# Altium integrated library Resistors_CPF-0805.IntLib: 984 symbols (part 2 of 6)
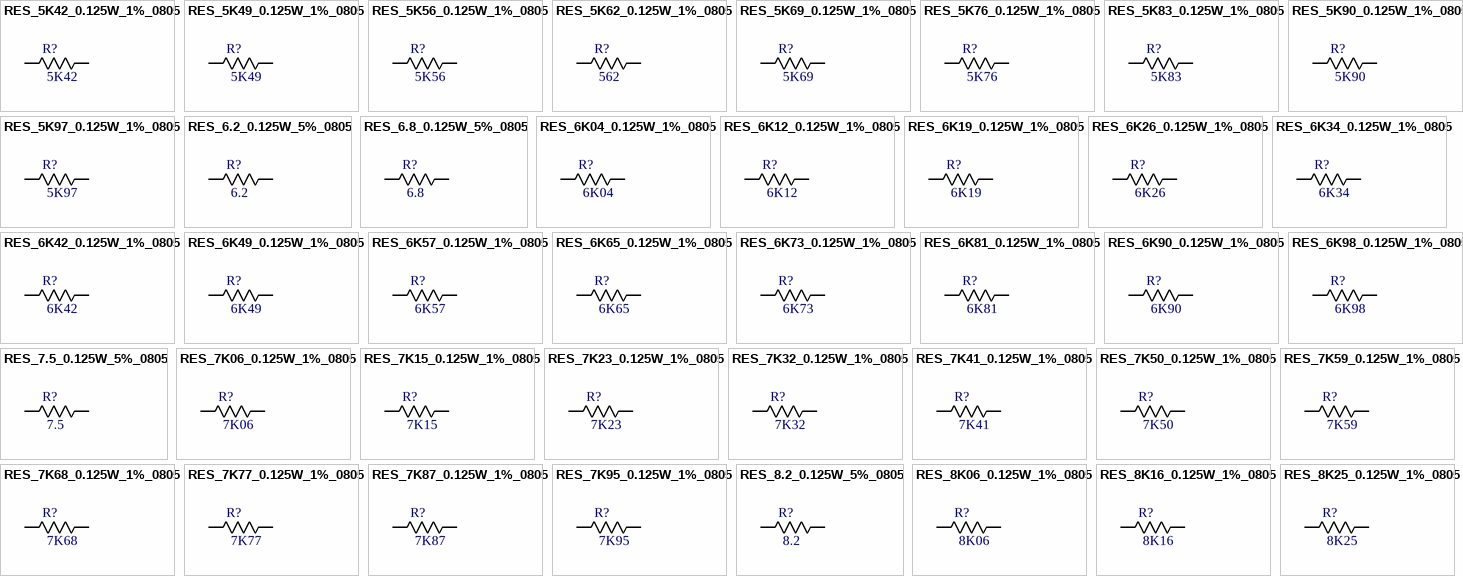
[diagram p25: symbols RES_5K42_0.125W_1%_0805 to RES_8K25_0.125W_1%_0805]

## RES_5K90_0.125W_1%_0805
designator R?, comment 5K90
Resistenza SMD TE Connectivity Film sottile; Voltage[V]: 100; Tollerance[%]: 0.1; Serie: CPF; Vendor: TE Connectivity; Type: Resistors; Package: 0805; Power[W]: 0.1; Value[OHM ]: 5K90
footprint RES_0816_SUS(My_MAXI)
pins: 1, 2

## RES_5K97_0.125W_1%_0805
designator R?, comment 5K97
Resistenza SMD TE Connectivity Film sottile; Voltage[V]: 100; Tollerance[%]: 0.1; Serie: CPF; Vendor: TE Connectivity; Type: Resistors; Package: 0805; Power[W]: 0.1; Value[OHM ]: 5K97
footprint RES_0816_SUS(My_MAXI)
pins: 1, 2

## RES_6.2_0.125W_5%_0805
designator R?, comment 6.2
Resistenza SMD TE Connectivity Film sottile; Voltage[V]: 100; Tollerance[%]: 0.05; Power[W]: 0.1; Serie: CPF; Vendor: TE Connectivity; Type: Resistors; Package: 0805; Value[OHM ]: 6.2
footprint RES_0816_SUS(My_MAXI)
pins: 1, 2

## RES_6.8_0.125W_5%_0805
designator R?, comment 6.8
Resistenza SMD TE Connectivity Film sottile; Voltage[V]: 100; Tollerance[%]: 0.05; Power[W]: 0.1; Serie: CPF; Vendor: TE Connectivity; Type: Resistors; Package: 0805; Value[OHM ]: 6.8
footprint RES_0816_SUS(My_MAXI)
pins: 1, 2

## RES_6K04_0.125W_1%_0805
designator R?, comment 6K04
Resistenza SMD TE Connectivity Film sottile; Voltage[V]: 100; Tollerance[%]: 0.1; Serie: CPF; Vendor: TE Connectivity; Type: Resistors; Package: 0805; Power[W]: 0.1; Value[OHM ]: 6K04
footprint RES_0816_SUS(My_MAXI)
pins: 1, 2

## RES_6K12_0.125W_1%_0805
designator R?, comment 6K12
Resistenza SMD TE Connectivity Film sottile; Voltage[V]: 100; Tollerance[%]: 0.1; Serie: CPF; Vendor: TE Connectivity; Type: Resistors; Package: 0805; Power[W]: 0.1; Value[OHM ]: 6K12
footprint RES_0816_SUS(My_MAXI)
pins: 1, 2

## RES_6K19_0.125W_1%_0805
designator R?, comment 6K19
Resistenza SMD TE Connectivity Film sottile; Voltage[V]: 100; Tollerance[%]: 0.1; Serie: CPF; Vendor: TE Connectivity; Type: Resistors; Package: 0805; Power[W]: 0.1; Value[OHM ]: 6K19
footprint RES_0816_SUS(My_MAXI)
pins: 1, 2

## RES_6K26_0.125W_1%_0805
designator R?, comment 6K26
Resistenza SMD TE Connectivity Film sottile; Voltage[V]: 100; Tollerance[%]: 0.1; Serie: CPF; Vendor: TE Connectivity; Type: Resistors; Package: 0805; Power[W]: 0.1; Value[OHM ]: 6K26
footprint RES_0816_SUS(My_MAXI)
pins: 1, 2

## RES_6K34_0.125W_1%_0805
designator R?, comment 6K34
Resistenza SMD TE Connectivity Film sottile; Voltage[V]: 100; Tollerance[%]: 0.1; Serie: CPF; Vendor: TE Connectivity; Type: Resistors; Package: 0805; Power[W]: 0.1; Value[OHM ]: 6K34
footprint RES_0816_SUS(My_MAXI)
pins: 1, 2

## RES_6K42_0.125W_1%_0805
designator R?, comment 6K42
Resistenza SMD TE Connectivity Film sottile; Voltage[V]: 100; Tollerance[%]: 0.1; Serie: CPF; Vendor: TE Connectivity; Type: Resistors; Package: 0805; Power[W]: 0.1; Value[OHM ]: 6K42
footprint RES_0816_SUS(My_MAXI)
pins: 1, 2

## RES_6K49_0.125W_1%_0805
designator R?, comment 6K49
Resistenza SMD TE Connectivity Film sottile; Voltage[V]: 100; Tollerance[%]: 0.1; Serie: CPF; Vendor: TE Connectivity; Type: Resistors; Package: 0805; Power[W]: 0.1; Value[OHM ]: 6K49
footprint RES_0816_SUS(My_MAXI)
pins: 1, 2

## RES_6K57_0.125W_1%_0805
designator R?, comment 6K57
Resistenza SMD TE Connectivity Film sottile; Voltage[V]: 100; Tollerance[%]: 0.1; Serie: CPF; Vendor: TE Connectivity; Type: Resistors; Package: 0805; Power[W]: 0.1; Value[OHM ]: 6K57
footprint RES_0816_SUS(My_MAXI)
pins: 1, 2

## RES_6K65_0.125W_1%_0805
designator R?, comment 6K65
Resistenza SMD TE Connectivity Film sottile; Voltage[V]: 100; Tollerance[%]: 0.1; Serie: CPF; Vendor: TE Connectivity; Type: Resistors; Package: 0805; Power[W]: 0.1; Value[OHM ]: 6K65
footprint RES_0816_SUS(My_MAXI)
pins: 1, 2

## RES_6K73_0.125W_1%_0805
designator R?, comment 6K73
Resistenza SMD TE Connectivity Film sottile; Voltage[V]: 100; Tollerance[%]: 0.1; Serie: CPF; Vendor: TE Connectivity; Type: Resistors; Package: 0805; Power[W]: 0.1; Value[OHM ]: 6K73
footprint RES_0816_SUS(My_MAXI)
pins: 1, 2

## RES_6K81_0.125W_1%_0805
designator R?, comment 6K81
Resistenza SMD TE Connectivity Film sottile; Voltage[V]: 100; Tollerance[%]: 0.1; Serie: CPF; Vendor: TE Connectivity; Type: Resistors; Package: 0805; Power[W]: 0.1; Value[OHM ]: 6K81
footprint RES_0816_SUS(My_MAXI)
pins: 1, 2

## RES_6K90_0.125W_1%_0805
designator R?, comment 6K90
Resistenza SMD TE Connectivity Film sottile; Voltage[V]: 100; Tollerance[%]: 0.1; Serie: CPF; Vendor: TE Connectivity; Type: Resistors; Package: 0805; Power[W]: 0.1; Value[OHM ]: 6K90
footprint RES_0816_SUS(My_MAXI)
pins: 1, 2

## RES_6K98_0.125W_1%_0805
designator R?, comment 6K98
Resistenza SMD TE Connectivity Film sottile; Voltage[V]: 100; Tollerance[%]: 0.1; Serie: CPF; Vendor: TE Connectivity; Type: Resistors; Package: 0805; Power[W]: 0.1; Value[OHM ]: 6K98
footprint RES_0816_SUS(My_MAXI)
pins: 1, 2

## RES_7.5_0.125W_5%_0805
designator R?, comment 7.5
Resistenza SMD TE Connectivity Film sottile; Voltage[V]: 100; Tollerance[%]: 0.05; Power[W]: 0.1; Serie: CPF; Vendor: TE Connectivity; Type: Resistors; Package: 0805; Value[OHM ]: 7.5
footprint RES_0816_SUS(My_MAXI)
pins: 1, 2

## RES_7K06_0.125W_1%_0805
designator R?, comment 7K06
Resistenza SMD TE Connectivity Film sottile; Voltage[V]: 100; Tollerance[%]: 0.1; Serie: CPF; Vendor: TE Connectivity; Type: Resistors; Package: 0805; Power[W]: 0.1; Value[OHM ]: 7K06
footprint RES_0816_SUS(My_MAXI)
pins: 1, 2

## RES_7K15_0.125W_1%_0805
designator R?, comment 7K15
Resistenza SMD TE Connectivity Film sottile; Voltage[V]: 100; Tollerance[%]: 0.1; Serie: CPF; Vendor: TE Connectivity; Type: Resistors; Package: 0805; Power[W]: 0.1; Value[OHM ]: 7K15
footprint RES_0816_SUS(My_MAXI)
pins: 1, 2

## RES_7K23_0.125W_1%_0805
designator R?, comment 7K23
Resistenza SMD TE Connectivity Film sottile; Voltage[V]: 100; Tollerance[%]: 0.1; Serie: CPF; Vendor: TE Connectivity; Type: Resistors; Package: 0805; Power[W]: 0.1; Value[OHM ]: 7K23
footprint RES_0816_SUS(My_MAXI)
pins: 1, 2

## RES_7K32_0.125W_1%_0805
designator R?, comment 7K32
Resistenza SMD TE Connectivity Film sottile; Voltage[V]: 100; Tollerance[%]: 0.1; Serie: CPF; Vendor: TE Connectivity; Type: Resistors; Package: 0805; Power[W]: 0.1; Value[OHM ]: 7K32
footprint RES_0816_SUS(My_MAXI)
pins: 1, 2

## RES_7K41_0.125W_1%_0805
designator R?, comment 7K41
Resistenza SMD TE Connectivity Film sottile; Voltage[V]: 100; Tollerance[%]: 0.1; Serie: CPF; Vendor: TE Connectivity; Type: Resistors; Package: 0805; Power[W]: 0.1; Value[OHM ]: 7K41
footprint RES_0816_SUS(My_MAXI)
pins: 1, 2

## RES_7K50_0.125W_1%_0805
designator R?, comment 7K50
Resistenza SMD TE Connectivity Film sottile; Voltage[V]: 100; Tollerance[%]: 0.1; Serie: CPF; Vendor: TE Connectivity; Type: Resistors; Package: 0805; Power[W]: 0.1; Value[OHM ]: 7K50
footprint RES_0816_SUS(My_MAXI)
pins: 1, 2

## RES_7K59_0.125W_1%_0805
designator R?, comment 7K59
Resistenza SMD TE Connectivity Film sottile; Voltage[V]: 100; Tollerance[%]: 0.1; Serie: CPF; Vendor: TE Connectivity; Type: Resistors; Package: 0805; Power[W]: 0.1; Value[OHM ]: 7K59
footprint RES_0816_SUS(My_MAXI)
pins: 1, 2

## RES_7K68_0.125W_1%_0805
designator R?, comment 7K68
Resistenza SMD TE Connectivity Film sottile; Voltage[V]: 100; Tollerance[%]: 0.1; Serie: CPF; Vendor: TE Connectivity; Type: Resistors; Package: 0805; Power[W]: 0.1; Value[OHM ]: 7K68
footprint RES_0816_SUS(My_MAXI)
pins: 1, 2

## RES_7K77_0.125W_1%_0805
designator R?, comment 7K77
Resistenza SMD TE Connectivity Film sottile; Voltage[V]: 100; Tollerance[%]: 0.1; Serie: CPF; Vendor: TE Connectivity; Type: Resistors; Package: 0805; Power[W]: 0.1; Value[OHM ]: 7K77
footprint RES_0816_SUS(My_MAXI)
pins: 1, 2

## RES_7K87_0.125W_1%_0805
designator R?, comment 7K87
Resistenza SMD TE Connectivity Film sottile; Voltage[V]: 100; Tollerance[%]: 0.1; Serie: CPF; Vendor: TE Connectivity; Type: Resistors; Package: 0805; Power[W]: 0.1; Value[OHM ]: 7K87
footprint RES_0816_SUS(My_MAXI)
pins: 1, 2

## RES_7K95_0.125W_1%_0805
designator R?, comment 7K95
Resistenza SMD TE Connectivity Film sottile; Voltage[V]: 100; Tollerance[%]: 0.1; Serie: CPF; Vendor: TE Connectivity; Type: Resistors; Package: 0805; Power[W]: 0.1; Value[OHM ]: 7K95
footprint RES_0816_SUS(My_MAXI)
pins: 1, 2

## RES_8.2_0.125W_5%_0805
designator R?, comment 8.2
Resistenza SMD TE Connectivity Film sottile; Voltage[V]: 100; Tollerance[%]: 0.05; Power[W]: 0.1; Serie: CPF; Vendor: TE Connectivity; Type: Resistors; Package: 0805; Value[OHM ]: 8.2
footprint RES_0816_SUS(My_MAXI)
pins: 1, 2

## RES_8K06_0.125W_1%_0805
designator R?, comment 8K06
Resistenza SMD TE Connectivity Film sottile; Voltage[V]: 100; Tollerance[%]: 0.1; Serie: CPF; Vendor: TE Connectivity; Type: Resistors; Package: 0805; Power[W]: 0.1; Value[OHM ]: 8K06
footprint RES_0816_SUS(My_MAXI)
pins: 1, 2

## RES_8K16_0.125W_1%_0805
designator R?, comment 8K16
Resistenza SMD TE Connectivity Film sottile; Voltage[V]: 100; Tollerance[%]: 0.1; Serie: CPF; Codice RS: 6; Vendor: TE Connectivity; Type: Resistors; Package: 0805; Power[W]: 0.1; Value[OHM ]: 8K16
footprint RES_0816_SUS(My_MAXI)
pins: 1, 2

## RES_8K25_0.125W_1%_0805
designator R?, comment 8K25
Resistenza SMD TE Connectivity Film sottile; Voltage[V]: 100; Tollerance[%]: 0.1; Serie: CPF; Vendor: TE Connectivity; Type: Resistors; Package: 0805; Power[W]: 0.1; Value[OHM ]: 8K25
footprint RES_0816_SUS(My_MAXI)
pins: 1, 2

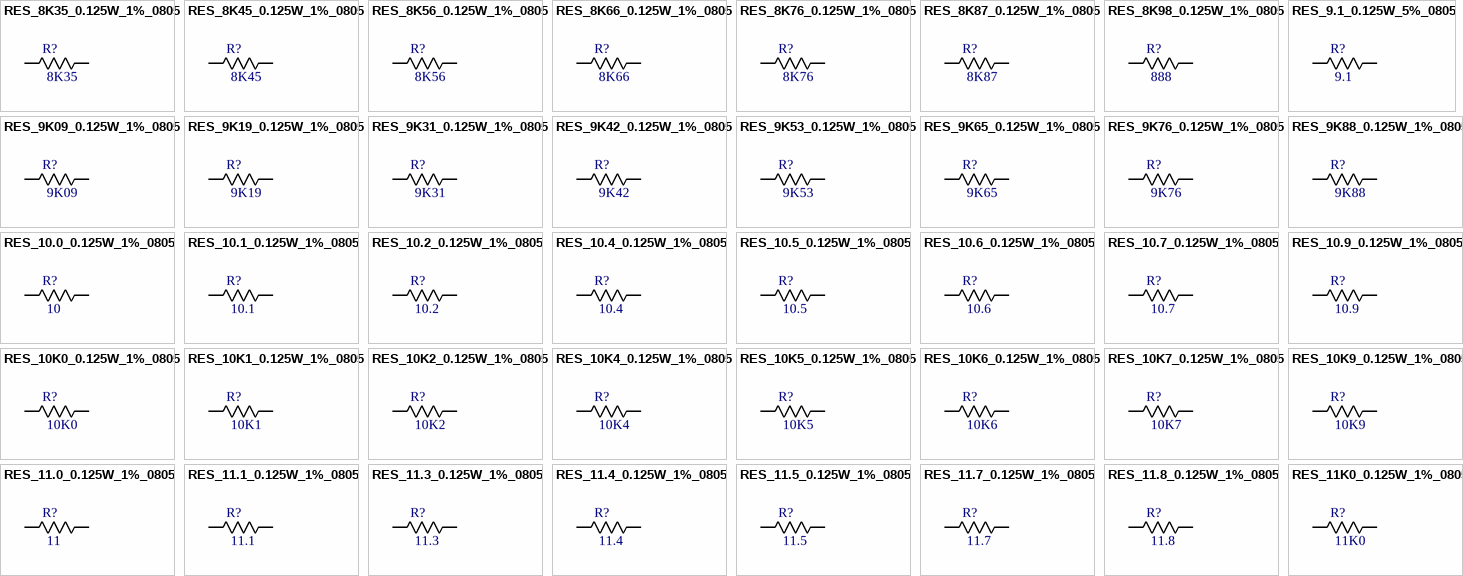
[diagram p5: symbols RES_8K35_0.125W_1%_0805 to RES_11K0_0.125W_1%_0805]

## RES_8K35_0.125W_1%_0805
designator R?, comment 8K35
Resistenza SMD TE Connectivity Film sottile; Voltage[V]: 100; Tollerance[%]: 0.1; Serie: CPF; Vendor: TE Connectivity; Type: Resistors; Package: 0805; Power[W]: 0.1; Value[OHM ]: 8K35
footprint RES_0816_SUS(My_MAXI)
pins: 1, 2

## RES_8K45_0.125W_1%_0805
designator R?, comment 8K45
Resistenza SMD TE Connectivity Film sottile; Voltage[V]: 100; Tollerance[%]: 0.1; Serie: CPF; Vendor: TE Connectivity; Type: Resistors; Package: 0805; Power[W]: 0.1; Value[OHM ]: 8K45
footprint RES_0816_SUS(My_MAXI)
pins: 1, 2

## RES_8K56_0.125W_1%_0805
designator R?, comment 8K56
Resistenza SMD TE Connectivity Film sottile; Voltage[V]: 100; Tollerance[%]: 0.1; Serie: CPF; Vendor: TE Connectivity; Type: Resistors; Package: 0805; Power[W]: 0.1; Value[OHM ]: 8K56
footprint RES_0816_SUS(My_MAXI)
pins: 1, 2

## RES_8K66_0.125W_1%_0805
designator R?, comment 8K66
Resistenza SMD TE Connectivity Film sottile; Voltage[V]: 100; Tollerance[%]: 0.1; Serie: CPF; Vendor: TE Connectivity; Type: Resistors; Package: 0805; Power[W]: 0.1; Value[OHM ]: 8K66
footprint RES_0816_SUS(My_MAXI)
pins: 1, 2

## RES_8K76_0.125W_1%_0805
designator R?, comment 8K76
Resistenza SMD TE Connectivity Film sottile; Voltage[V]: 100; Tollerance[%]: 0.1; Serie: CPF; Vendor: TE Connectivity; Type: Resistors; Package: 0805; Power[W]: 0.1; Value[OHM ]: 8K76
footprint RES_0816_SUS(My_MAXI)
pins: 1, 2

## RES_8K87_0.125W_1%_0805
designator R?, comment 8K87
Resistenza SMD TE Connectivity Film sottile; Voltage[V]: 100; Tollerance[%]: 0.1; Serie: CPF; Vendor: TE Connectivity; Type: Resistors; Package: 0805; Power[W]: 0.1; Value[OHM ]: 8K87
footprint RES_0816_SUS(My_MAXI)
pins: 1, 2

## RES_8K98_0.125W_1%_0805
designator R?, comment 888
Resistenza SMD TE Connectivity Film sottile; Voltage[V]: 100; Tollerance[%]: 0.1; Serie: CPF; Vendor: TE Connectivity; Type: Resistors; Package: 0805; Power[W]: 0.1; Value[OHM ]: 888
footprint RES_0816_SUS(My_MAXI)
pins: 1, 2

## RES_9.1_0.125W_5%_0805
designator R?, comment 9.1
Resistenza SMD TE Connectivity Film sottile; Voltage[V]: 100; Tollerance[%]: 0.05; Power[W]: 0.1; Serie: CPF; Vendor: TE Connectivity; Type: Resistors; Package: 0805; Value[OHM ]: 9.1
footprint RES_0816_SUS(My_MAXI)
pins: 1, 2

## RES_9K09_0.125W_1%_0805
designator R?, comment 9K09
Resistenza SMD TE Connectivity Film sottile; Voltage[V]: 100; Tollerance[%]: 0.1; Serie: CPF; Vendor: TE Connectivity; Type: Resistors; Package: 0805; Power[W]: 0.1; Value[OHM ]: 9K09
footprint RES_0816_SUS(My_MAXI)
pins: 1, 2

## RES_9K19_0.125W_1%_0805
designator R?, comment 9K19
Resistenza SMD TE Connectivity Film sottile; Voltage[V]: 100; Tollerance[%]: 0.1; Serie: CPF; Vendor: TE Connectivity; Type: Resistors; Package: 0805; Power[W]: 0.1; Value[OHM ]: 9K19
footprint RES_0816_SUS(My_MAXI)
pins: 1, 2

## RES_9K31_0.125W_1%_0805
designator R?, comment 9K31
Resistenza SMD TE Connectivity Film sottile; Voltage[V]: 100; Tollerance[%]: 0.1; Serie: CPF; Vendor: TE Connectivity; Type: Resistors; Package: 0805; Power[W]: 0.1; Value[OHM ]: 9K31
footprint RES_0816_SUS(My_MAXI)
pins: 1, 2

## RES_9K42_0.125W_1%_0805
designator R?, comment 9K42
Resistenza SMD TE Connectivity Film sottile; Voltage[V]: 100; Tollerance[%]: 0.1; Serie: CPF; Vendor: TE Connectivity; Type: Resistors; Package: 0805; Power[W]: 0.1; Value[OHM ]: 9K42
footprint RES_0816_SUS(My_MAXI)
pins: 1, 2

## RES_9K53_0.125W_1%_0805
designator R?, comment 9K53
Resistenza SMD TE Connectivity Film sottile; Voltage[V]: 100; Tollerance[%]: 0.1; Serie: CPF; Vendor: TE Connectivity; Type: Resistors; Package: 0805; Power[W]: 0.1; Value[OHM ]: 9K53
footprint RES_0816_SUS(My_MAXI)
pins: 1, 2

## RES_9K65_0.125W_1%_0805
designator R?, comment 9K65
Resistenza SMD TE Connectivity Film sottile; Voltage[V]: 100; Tollerance[%]: 0.1; Serie: CPF; Vendor: TE Connectivity; Type: Resistors; Package: 0805; Power[W]: 0.1; Value[OHM ]: 9K65
footprint RES_0816_SUS(My_MAXI)
pins: 1, 2

## RES_9K76_0.125W_1%_0805
designator R?, comment 9K76
Resistenza SMD TE Connectivity Film sottile; Voltage[V]: 100; Tollerance[%]: 0.1; Serie: CPF; Vendor: TE Connectivity; Type: Resistors; Package: 0805; Power[W]: 0.1; Value[OHM ]: 9K76
footprint RES_0816_SUS(My_MAXI)
pins: 1, 2

## RES_9K88_0.125W_1%_0805
designator R?, comment 9K88
Resistenza SMD TE Connectivity Film sottile; Voltage[V]: 100; Tollerance[%]: 0.1; Serie: CPF; Codice RS: 666-2516; Vendor: TE Connectivity; Type: Resistors; Package: 0805; Power[W]: 0.1; Value[OHM ]: 100
footprint RES_0816_SUS(My_MAXI)
pins: 1, 2

## RES_10.0_0.125W_1%_0805
designator R?, comment 10
Resistenza SMD TE Connectivity Film sottile; Voltage[V]: 100; Tollerance[%]: 0.1; Serie: CPF; Vendor: TE Connectivity; Type: Resistors; Package: 0805; Power[W]: 0.1; Value[OHM ]: 10
footprint RES_0816_SUS(My_MAXI)
pins: 1, 2

## RES_10.1_0.125W_1%_0805
designator R?, comment 10.1
Resistenza SMD TE Connectivity Film sottile; Voltage[V]: 100; Tollerance[%]: 0.1; Serie: CPF; Vendor: TE Connectivity; Type: Resistors; Package: 0805; Power[W]: 0.1; Value[OHM ]: 10.1
footprint RES_0816_SUS(My_MAXI)
pins: 1, 2

## RES_10.2_0.125W_1%_0805
designator R?, comment 10.2
Resistenza SMD TE Connectivity Film sottile; Voltage[V]: 100; Tollerance[%]: 0.1; Serie: CPF; Vendor: TE Connectivity; Type: Resistors; Package: 0805; Power[W]: 0.1; Value[OHM ]: 10.2
footprint RES_0816_SUS(My_MAXI)
pins: 1, 2

## RES_10.4_0.125W_1%_0805
designator R?, comment 10.4
Resistenza SMD TE Connectivity Film sottile; Voltage[V]: 100; Tollerance[%]: 0.1; Serie: CPF; Vendor: TE Connectivity; Type: Resistors; Package: 0805; Power[W]: 0.1; Value[OHM ]: 10.4
footprint RES_0816_SUS(My_MAXI)
pins: 1, 2

## RES_10.5_0.125W_1%_0805
designator R?, comment 10.5
Resistenza SMD TE Connectivity Film sottile; Voltage[V]: 100; Tollerance[%]: 0.1; Serie: CPF; Vendor: TE Connectivity; Type: Resistors; Package: 0805; Power[W]: 0.1; Value[OHM ]: 10.5
footprint RES_0816_SUS(My_MAXI)
pins: 1, 2

## RES_10.6_0.125W_1%_0805
designator R?, comment 10.6
Resistenza SMD TE Connectivity Film sottile; Voltage[V]: 100; Tollerance[%]: 0.1; Serie: CPF; Value[OHM ]: 10.5; Vendor: TE Connectivity; Type: Resistors; Package: 0805; Power[W]: 0.1
footprint RES_0816_SUS(My_MAXI)
pins: 1, 2

## RES_10.7_0.125W_1%_0805
designator R?, comment 10.7
Resistenza SMD TE Connectivity Film sottile; Manufacturer_Part_Number: CPF0805B100RE; Voltage[V]: 100; Tollerance[%]: 0.1; Serie: CPF; Codice RS: 666-2516; Vendor: TE Connectivity; Type: Resistors; Package: 0805; Power[W]: 0.1; Value[OHM ]: 10.7
footprint RES_0816_SUS(My_MAXI)
pins: 1, 2

## RES_10.9_0.125W_1%_0805
designator R?, comment 10.9
Resistenza SMD TE Connectivity Film sottile; Voltage[V]: 100; Tollerance[%]: 0.1; Serie: CPF; Vendor: TE Connectivity; Type: Resistors; Package: 0805; Power[W]: 0.1; Value[OHM ]: 10.9
footprint RES_0816_SUS(My_MAXI)
pins: 1, 2

## RES_10K0_0.125W_1%_0805
designator R?, comment 10K0
Resistenza SMD TE Connectivity Film sottile; Voltage[V]: 100; Tollerance[%]: 0.1; Serie: CPF; Vendor: TE Connectivity; Type: Resistors; Package: 0805; Power[W]: 0.1; Value[OHM ]: 10K0
footprint RES_0816_SUS(My_MAXI)
pins: 1, 2

## RES_10K1_0.125W_1%_0805
designator R?, comment 10K1
Resistenza SMD TE Connectivity Film sottile; Voltage[V]: 100; Tollerance[%]: 0.1; Serie: CPF; Vendor: TE Connectivity; Type: Resistors; Package: 0805; Power[W]: 0.1; Value[OHM ]: 10K1
footprint RES_0816_SUS(My_MAXI)
pins: 1, 2

## RES_10K2_0.125W_1%_0805
designator R?, comment 10K2
Resistenza SMD TE Connectivity Film sottile; Voltage[V]: 100; Tollerance[%]: 0.1; Serie: CPF; Vendor: TE Connectivity; Type: Resistors; Package: 0805; Power[W]: 0.1; Value[OHM ]: 10K2
footprint RES_0816_SUS(My_MAXI)
pins: 1, 2

## RES_10K4_0.125W_1%_0805
designator R?, comment 10K4
Resistenza SMD TE Connectivity Film sottile; Voltage[V]: 100; Tollerance[%]: 0.1; Serie: CPF; Vendor: TE Connectivity; Type: Resistors; Package: 0805; Power[W]: 0.1; Value[OHM ]: 10K4
footprint RES_0816_SUS(My_MAXI)
pins: 1, 2

## RES_10K5_0.125W_1%_0805
designator R?, comment 10K5
Resistenza SMD TE Connectivity Film sottile; Voltage[V]: 100; Tollerance[%]: 0.1; Serie: CPF; Vendor: TE Connectivity; Type: Resistors; Package: 0805; Power[W]: 0.1; Value[OHM ]: 10K5
footprint RES_0816_SUS(My_MAXI)
pins: 1, 2

## RES_10K6_0.125W_1%_0805
designator R?, comment 10K6
Resistenza SMD TE Connectivity Film sottile; Voltage[V]: 100; Tollerance[%]: 0.1; Serie: CPF; Vendor: TE Connectivity; Type: Resistors; Package: 0805; Power[W]: 0.1; Value[OHM ]: 10K6
footprint RES_0816_SUS(My_MAXI)
pins: 1, 2

## RES_10K7_0.125W_1%_0805
designator R?, comment 10K7
Resistenza SMD TE Connectivity Film sottile; Voltage[V]: 100; Tollerance[%]: 0.1; Serie: CPF; Value[OHM ]: 10K6; Vendor: TE Connectivity; Type: Resistors; Package: 0805; Power[W]: 0.1
footprint RES_0816_SUS(My_MAXI)
pins: 1, 2

## RES_10K9_0.125W_1%_0805
designator R?, comment 10K9
Resistenza SMD TE Connectivity Film sottile; Voltage[V]: 100; Tollerance[%]: 0.1; Serie: CPF; Vendor: TE Connectivity; Type: Resistors; Package: 0805; Power[W]: 0.1; Value[OHM ]: 10K9
footprint RES_0816_SUS(My_MAXI)
pins: 1, 2

## RES_11.0_0.125W_1%_0805
designator R?, comment 11
Resistenza SMD TE Connectivity Film sottile; Voltage[V]: 100; Tollerance[%]: 0.1; Serie: CPF; Vendor: TE Connectivity; Type: Resistors; Package: 0805; Power[W]: 0.1; Value[OHM ]: 11
footprint RES_0816_SUS(My_MAXI)
pins: 1, 2

## RES_11.1_0.125W_1%_0805
designator R?, comment 11.1
Resistenza SMD TE Connectivity Film sottile; Voltage[V]: 100; Tollerance[%]: 0.1; Serie: CPF; Vendor: TE Connectivity; Type: Resistors; Package: 0805; Power[W]: 0.1; Value[OHM ]: 11.1
footprint RES_0816_SUS(My_MAXI)
pins: 1, 2

## RES_11.3_0.125W_1%_0805
designator R?, comment 11.3
Resistenza SMD TE Connectivity Film sottile; Voltage[V]: 100; Tollerance[%]: 0.1; Serie: CPF; Vendor: TE Connectivity; Type: Resistors; Package: 0805; Power[W]: 0.1; Value[OHM ]: 11.3
footprint RES_0816_SUS(My_MAXI)
pins: 1, 2

## RES_11.4_0.125W_1%_0805
designator R?, comment 11.4
Resistenza SMD TE Connectivity Film sottile; Voltage[V]: 100; Tollerance[%]: 0.1; Serie: CPF; Vendor: TE Connectivity; Type: Resistors; Package: 0805; Power[W]: 0.1; Value[OHM ]: 11.4
footprint RES_0816_SUS(My_MAXI)
pins: 1, 2

## RES_11.5_0.125W_1%_0805
designator R?, comment 11.5
Resistenza SMD TE Connectivity Film sottile; Voltage[V]: 100; Tollerance[%]: 0.1; Serie: CPF; Vendor: TE Connectivity; Type: Resistors; Package: 0805; Power[W]: 0.1; Value[OHM ]: 11.5
footprint RES_0816_SUS(My_MAXI)
pins: 1, 2

## RES_11.7_0.125W_1%_0805
designator R?, comment 11.7
Resistenza SMD TE Connectivity Film sottile; Voltage[V]: 100; Tollerance[%]: 0.1; Serie: CPF; Vendor: TE Connectivity; Type: Resistors; Package: 0805; Power[W]: 0.1; Value[OHM ]: 11.7
footprint RES_0816_SUS(My_MAXI)
pins: 1, 2

## RES_11.8_0.125W_1%_0805
designator R?, comment 11.8
Resistenza SMD TE Connectivity Film sottile; Voltage[V]: 100; Tollerance[%]: 0.1; Serie: CPF; Vendor: TE Connectivity; Type: Resistors; Package: 0805; Power[W]: 0.1; Value[OHM ]: 11.8
footprint RES_0816_SUS(My_MAXI)
pins: 1, 2

## RES_11K0_0.125W_1%_0805
designator R?, comment 11K0
Resistenza SMD TE Connectivity Film sottile; Voltage[V]: 100; Tollerance[%]: 0.1; Serie: CPF; Vendor: TE Connectivity; Type: Resistors; Package: 0805; Power[W]: 0.1; Value[OHM ]: 11K0
footprint RES_0816_SUS(My_MAXI)
pins: 1, 2

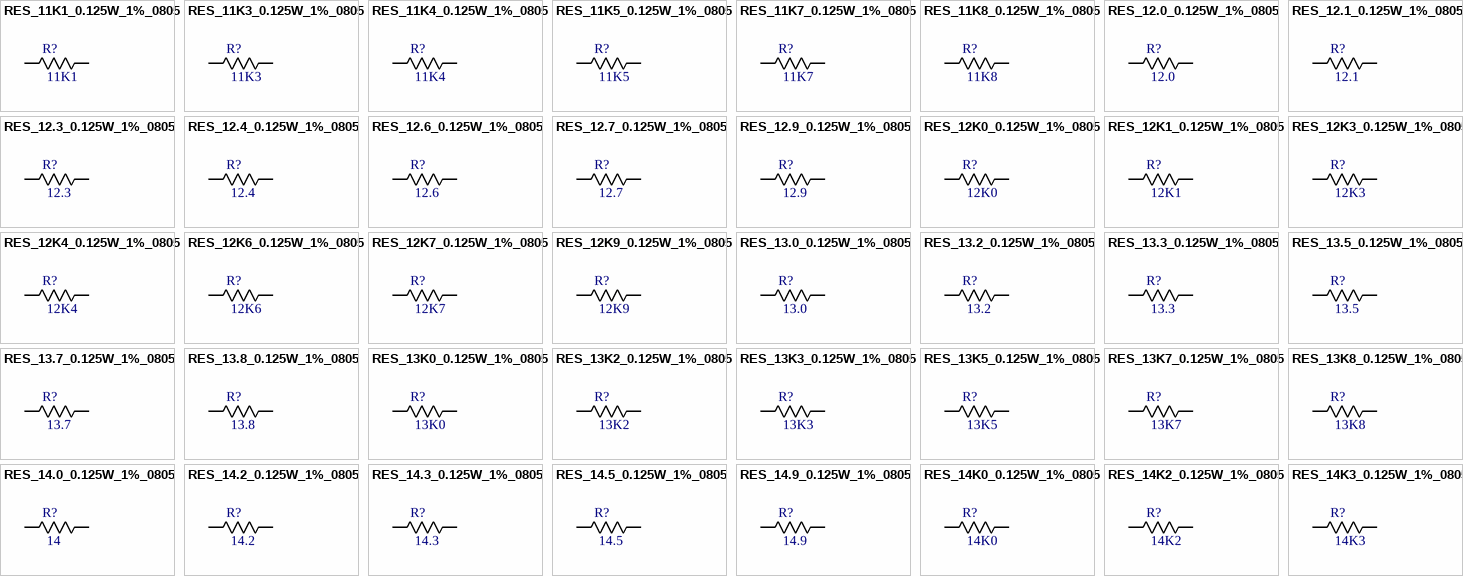
[diagram p6: symbols RES_11K1_0.125W_1%_0805 to RES_14K3_0.125W_1%_0805]

## RES_11K1_0.125W_1%_0805
designator R?, comment 11K1
Resistenza SMD TE Connectivity Film sottile; Voltage[V]: 100; Tollerance[%]: 0.1; Serie: CPF; Vendor: TE Connectivity; Type: Resistors; Package: 0805; Power[W]: 0.1; Value[OHM ]: 11K1
footprint RES_0816_SUS(My_MAXI)
pins: 1, 2

## RES_11K3_0.125W_1%_0805
designator R?, comment 11K3
Resistenza SMD TE Connectivity Film sottile; Voltage[V]: 100; Tollerance[%]: 0.1; Serie: CPF; Vendor: TE Connectivity; Type: Resistors; Package: 0805; Power[W]: 0.1; Value[OHM ]: 11K3
footprint RES_0816_SUS(My_MAXI)
pins: 1, 2

## RES_11K4_0.125W_1%_0805
designator R?, comment 11K4
Resistenza SMD TE Connectivity Film sottile; Voltage[V]: 100; Tollerance[%]: 0.1; Serie: CPF; Vendor: TE Connectivity; Type: Resistors; Package: 0805; Power[W]: 0.1; Value[OHM ]: 11K4
footprint RES_0816_SUS(My_MAXI)
pins: 1, 2

## RES_11K5_0.125W_1%_0805
designator R?, comment 11K5
Resistenza SMD TE Connectivity Film sottile; Voltage[V]: 100; Tollerance[%]: 0.1; Serie: CPF; Vendor: TE Connectivity; Type: Resistors; Package: 0805; Power[W]: 0.1; Value[OHM ]: 11K5
footprint RES_0816_SUS(My_MAXI)
pins: 1, 2

## RES_11K7_0.125W_1%_0805
designator R?, comment 11K7
Resistenza SMD TE Connectivity Film sottile; Voltage[V]: 100; Tollerance[%]: 0.1; Serie: CPF; Vendor: TE Connectivity; Type: Resistors; Package: 0805; Power[W]: 0.1; Value[OHM ]: 11K7
footprint RES_0816_SUS(My_MAXI)
pins: 1, 2

## RES_11K8_0.125W_1%_0805
designator R?, comment 11K8
Resistenza SMD TE Connectivity Film sottile; Voltage[V]: 100; Tollerance[%]: 0.1; Serie: CPF; Vendor: TE Connectivity; Type: Resistors; Package: 0805; Power[W]: 0.1; Value[OHM ]: 11K8
footprint RES_0816_SUS(My_MAXI)
pins: 1, 2

## RES_12.0_0.125W_1%_0805
designator R?, comment 12.0
Resistenza SMD TE Connectivity Film sottile; Voltage[V]: 100; Tollerance[%]: 0.1; Serie: CPF; Value[OHM ]: 12; Vendor: TE Connectivity; Type: Resistors; Package: 0805; Power[W]: 0.1
footprint RES_0816_SUS(My_MAXI)
pins: 1, 2

## RES_12.1_0.125W_1%_0805
designator R?, comment 12.1
Resistenza SMD TE Connectivity Film sottile; Voltage[V]: 100; Tollerance[%]: 0.1; Serie: CPF; Vendor: TE Connectivity; Type: Resistors; Package: 0805; Power[W]: 0.1; Value[OHM ]: 12.1
footprint RES_0816_SUS(My_MAXI)
pins: 1, 2

## RES_12.3_0.125W_1%_0805
designator R?, comment 12.3
Resistenza SMD TE Connectivity Film sottile; Voltage[V]: 100; Tollerance[%]: 0.1; Serie: CPF; Vendor: TE Connectivity; Type: Resistors; Package: 0805; Power[W]: 0.1; Value[OHM ]: 12.3
footprint RES_0816_SUS(My_MAXI)
pins: 1, 2

## RES_12.4_0.125W_1%_0805
designator R?, comment 12.4
Resistenza SMD TE Connectivity Film sottile; Voltage[V]: 100; Tollerance[%]: 0.1; Serie: CPF; Vendor: TE Connectivity; Type: Resistors; Package: 0805; Power[W]: 0.1; Value[OHM ]: 12.4
footprint RES_0816_SUS(My_MAXI)
pins: 1, 2

## RES_12.6_0.125W_1%_0805
designator R?, comment 12.6
Resistenza SMD TE Connectivity Film sottile; Voltage[V]: 100; Tollerance[%]: 0.1; Serie: CPF; Vendor: TE Connectivity; Type: Resistors; Package: 0805; Power[W]: 0.1; Value[OHM ]: 12.6
footprint RES_0816_SUS(My_MAXI)
pins: 1, 2

## RES_12.7_0.125W_1%_0805
designator R?, comment 12.7
Resistenza SMD TE Connectivity Film sottile; Voltage[V]: 100; Tollerance[%]: 0.1; Serie: CPF; Vendor: TE Connectivity; Type: Resistors; Package: 0805; Power[W]: 0.1; Value[OHM ]: 12.7
footprint RES_0816_SUS(My_MAXI)
pins: 1, 2

## RES_12.9_0.125W_1%_0805
designator R?, comment 12.9
Resistenza SMD TE Connectivity Film sottile; Voltage[V]: 100; Tollerance[%]: 0.1; Serie: CPF; Vendor: TE Connectivity; Type: Resistors; Package: 0805; Power[W]: 0.1; Value[OHM ]: 12.9
footprint RES_0816_SUS(My_MAXI)
pins: 1, 2

## RES_12K0_0.125W_1%_0805
designator R?, comment 12K0
Resistenza SMD TE Connectivity Film sottile; Voltage[V]: 100; Tollerance[%]: 0.1; Serie: CPF; Vendor: TE Connectivity; Type: Resistors; Package: 0805; Power[W]: 0.1; Value[OHM ]: 12K0
footprint RES_0816_SUS(My_MAXI)
pins: 1, 2

## RES_12K1_0.125W_1%_0805
designator R?, comment 12K1
Resistenza SMD TE Connectivity Film sottile; Voltage[V]: 100; Tollerance[%]: 0.1; Serie: CPF; Vendor: TE Connectivity; Type: Resistors; Package: 0805; Power[W]: 0.1; Value[OHM ]: 12K1
footprint RES_0816_SUS(My_MAXI)
pins: 1, 2

## RES_12K3_0.125W_1%_0805
designator R?, comment 12K3
Resistenza SMD TE Connectivity Film sottile; Voltage[V]: 100; Tollerance[%]: 0.1; Serie: CPF; Vendor: TE Connectivity; Type: Resistors; Package: 0805; Power[W]: 0.1; Value[OHM ]: 12K3
footprint RES_0816_SUS(My_MAXI)
pins: 1, 2

## RES_12K4_0.125W_1%_0805
designator R?, comment 12K4
Resistenza SMD TE Connectivity Film sottile; Voltage[V]: 100; Tollerance[%]: 0.1; Serie: CPF; Vendor: TE Connectivity; Type: Resistors; Package: 0805; Power[W]: 0.1; Value[OHM ]: 12K4
footprint RES_0816_SUS(My_MAXI)
pins: 1, 2

## RES_12K6_0.125W_1%_0805
designator R?, comment 12K6
Resistenza SMD TE Connectivity Film sottile; Voltage[V]: 100; Tollerance[%]: 0.1; Serie: CPF; Vendor: TE Connectivity; Type: Resistors; Package: 0805; Power[W]: 0.1; Value[OHM ]: 12K6
footprint RES_0816_SUS(My_MAXI)
pins: 1, 2

## RES_12K7_0.125W_1%_0805
designator R?, comment 12K7
Resistenza SMD TE Connectivity Film sottile; Voltage[V]: 100; Tollerance[%]: 0.1; Serie: CPF; Vendor: TE Connectivity; Type: Resistors; Package: 0805; Power[W]: 0.1; Value[OHM ]: 12K7
footprint RES_0816_SUS(My_MAXI)
pins: 1, 2

## RES_12K9_0.125W_1%_0805
designator R?, comment 12K9
Resistenza SMD TE Connectivity Film sottile; Voltage[V]: 100; Tollerance[%]: 0.1; Serie: CPF; Vendor: TE Connectivity; Type: Resistors; Package: 0805; Power[W]: 0.1; Value[OHM ]: 12K9
footprint RES_0816_SUS(My_MAXI)
pins: 1, 2

## RES_13.0_0.125W_1%_0805
designator R?, comment 13.0
Resistenza SMD TE Connectivity Film sottile; Voltage[V]: 100; Tollerance[%]: 0.1; Serie: CPF; Value[OHM ]: 13; Vendor: TE Connectivity; Type: Resistors; Package: 0805; Power[W]: 0.1
footprint RES_0816_SUS(My_MAXI)
pins: 1, 2

## RES_13.2_0.125W_1%_0805
designator R?, comment 13.2
Resistenza SMD TE Connectivity Film sottile; Voltage[V]: 100; Tollerance[%]: 0.1; Serie: CPF; Vendor: TE Connectivity; Type: Resistors; Package: 0805; Power[W]: 0.1; Value[OHM ]: 13.2
footprint RES_0816_SUS(My_MAXI)
pins: 1, 2

## RES_13.3_0.125W_1%_0805
designator R?, comment 13.3
Resistenza SMD TE Connectivity Film sottile; Voltage[V]: 100; Tollerance[%]: 0.1; Serie: CPF; Vendor: TE Connectivity; Type: Resistors; Package: 0805; Power[W]: 0.1; Value[OHM ]: 13.3
footprint RES_0816_SUS(My_MAXI)
pins: 1, 2

## RES_13.5_0.125W_1%_0805
designator R?, comment 13.5
Resistenza SMD TE Connectivity Film sottile; Voltage[V]: 100; Tollerance[%]: 0.1; Serie: CPF; Vendor: TE Connectivity; Type: Resistors; Package: 0805; Power[W]: 0.1; Value[OHM ]: 13.5
footprint RES_0816_SUS(My_MAXI)
pins: 1, 2

## RES_13.7_0.125W_1%_0805
designator R?, comment 13.7
Resistenza SMD TE Connectivity Film sottile; Voltage[V]: 100; Tollerance[%]: 0.1; Serie: CPF; Vendor: TE Connectivity; Type: Resistors; Package: 0805; Power[W]: 0.1; Value[OHM ]: 13.7
footprint RES_0816_SUS(My_MAXI)
pins: 1, 2

## RES_13.8_0.125W_1%_0805
designator R?, comment 13.8
Resistenza SMD TE Connectivity Film sottile; Voltage[V]: 100; Tollerance[%]: 0.1; Serie: CPF; Vendor: TE Connectivity; Type: Resistors; Package: 0805; Power[W]: 0.1; Value[OHM ]: 13.8
footprint RES_0816_SUS(My_MAXI)
pins: 1, 2

## RES_13K0_0.125W_1%_0805
designator R?, comment 13K0
Resistenza SMD TE Connectivity Film sottile; Voltage[V]: 100; Tollerance[%]: 0.1; Serie: CPF; Vendor: TE Connectivity; Type: Resistors; Package: 0805; Power[W]: 0.1; Value[OHM ]: 13K0
footprint RES_0816_SUS(My_MAXI)
pins: 1, 2

## RES_13K2_0.125W_1%_0805
designator R?, comment 13K2
Resistenza SMD TE Connectivity Film sottile; Voltage[V]: 100; Tollerance[%]: 0.1; Serie: CPF; Vendor: TE Connectivity; Type: Resistors; Package: 0805; Power[W]: 0.1; Value[OHM ]: 13K2
footprint RES_0816_SUS(My_MAXI)
pins: 1, 2

## RES_13K3_0.125W_1%_0805
designator R?, comment 13K3
Resistenza SMD TE Connectivity Film sottile; Voltage[V]: 100; Tollerance[%]: 0.1; Serie: CPF; Vendor: TE Connectivity; Type: Resistors; Package: 0805; Power[W]: 0.1; Value[OHM ]: 13K3
footprint RES_0816_SUS(My_MAXI)
pins: 1, 2

## RES_13K5_0.125W_1%_0805
designator R?, comment 13K5
Resistenza SMD TE Connectivity Film sottile; Voltage[V]: 100; Tollerance[%]: 0.1; Serie: CPF; Vendor: TE Connectivity; Type: Resistors; Package: 0805; Power[W]: 0.1; Value[OHM ]: 13K5
footprint RES_0816_SUS(My_MAXI)
pins: 1, 2

## RES_13K7_0.125W_1%_0805
designator R?, comment 13K7
Resistenza SMD TE Connectivity Film sottile; Voltage[V]: 100; Tollerance[%]: 0.1; Serie: CPF; Vendor: TE Connectivity; Type: Resistors; Package: 0805; Power[W]: 0.1; Value[OHM ]: 13K7
footprint RES_0816_SUS(My_MAXI)
pins: 1, 2

## RES_13K8_0.125W_1%_0805
designator R?, comment 13K8
Resistenza SMD TE Connectivity Film sottile; Voltage[V]: 100; Tollerance[%]: 0.1; Serie: CPF; Vendor: TE Connectivity; Type: Resistors; Package: 0805; Power[W]: 0.1; Value[OHM ]: 13K8
footprint RES_0816_SUS(My_MAXI)
pins: 1, 2

## RES_14.0_0.125W_1%_0805
designator R?, comment 14
Resistenza SMD TE Connectivity Film sottile; Voltage[V]: 100; Tollerance[%]: 0.1; Serie: CPF; Vendor: TE Connectivity; Type: Resistors; Package: 0805; Power[W]: 0.1; Value[OHM ]: 14
footprint RES_0816_SUS(My_MAXI)
pins: 1, 2

## RES_14.2_0.125W_1%_0805
designator R?, comment 14.2
Resistenza SMD TE Connectivity Film sottile; Voltage[V]: 100; Tollerance[%]: 0.1; Serie: CPF; Vendor: TE Connectivity; Type: Resistors; Package: 0805; Power[W]: 0.1; Value[OHM ]: 14.2
footprint RES_0816_SUS(My_MAXI)
pins: 1, 2

## RES_14.3_0.125W_1%_0805
designator R?, comment 14.3
Resistenza SMD TE Connectivity Film sottile; Voltage[V]: 100; Tollerance[%]: 0.1; Serie: CPF; Vendor: TE Connectivity; Type: Resistors; Package: 0805; Power[W]: 0.1; Value[OHM ]: 14.3
footprint RES_0816_SUS(My_MAXI)
pins: 1, 2

## RES_14.5_0.125W_1%_0805
designator R?, comment 14.5
Resistenza SMD TE Connectivity Film sottile; Voltage[V]: 100; Tollerance[%]: 0.1; Serie: CPF; Vendor: TE Connectivity; Type: Resistors; Package: 0805; Power[W]: 0.1; Value[OHM ]: 14.5
footprint RES_0816_SUS(My_MAXI)
pins: 1, 2

## RES_14.9_0.125W_1%_0805
designator R?, comment 14.9
Resistenza SMD TE Connectivity Film sottile; Voltage[V]: 100; Tollerance[%]: 0.1; Serie: CPF; Vendor: TE Connectivity; Type: Resistors; Package: 0805; Power[W]: 0.1; Value[OHM ]: 14.9
footprint RES_0816_SUS(My_MAXI)
pins: 1, 2

## RES_14K0_0.125W_1%_0805
designator R?, comment 14K0
Resistenza SMD TE Connectivity Film sottile; Voltage[V]: 100; Tollerance[%]: 0.1; Serie: CPF; Value[OHM ]: 14K; Vendor: TE Connectivity; Type: Resistors; Package: 0805; Power[W]: 0.1
footprint RES_0816_SUS(My_MAXI)
pins: 1, 2

## RES_14K2_0.125W_1%_0805
designator R?, comment 14K2
Resistenza SMD TE Connectivity Film sottile; Voltage[V]: 100; Tollerance[%]: 0.1; Serie: CPF; Vendor: TE Connectivity; Type: Resistors; Package: 0805; Power[W]: 0.1; Value[OHM ]: 14K2
footprint RES_0816_SUS(My_MAXI)
pins: 1, 2

## RES_14K3_0.125W_1%_0805
designator R?, comment 14K3
Resistenza SMD TE Connectivity Film sottile; Voltage[V]: 100; Tollerance[%]: 0.1; Serie: CPF; Vendor: TE Connectivity; Type: Resistors; Package: 0805; Power[W]: 0.1; Value[OHM ]: 14K3
footprint RES_0816_SUS(My_MAXI)
pins: 1, 2

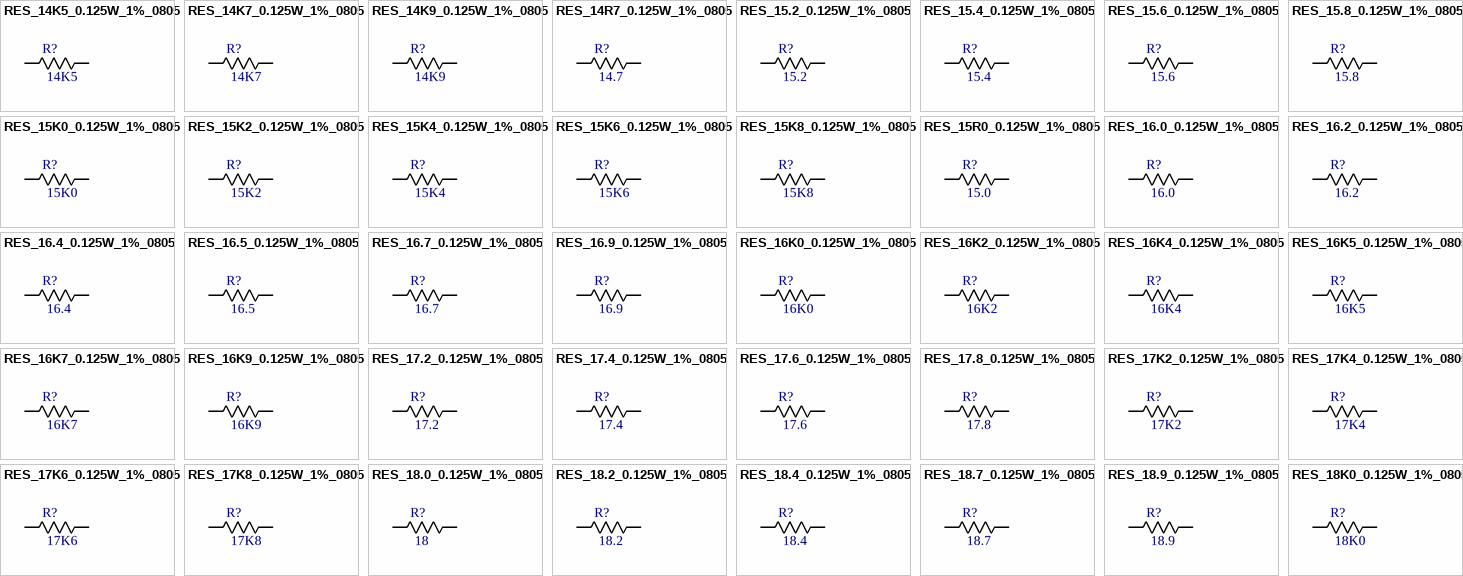
[diagram p7: symbols RES_14K5_0.125W_1%_0805 to RES_18K0_0.125W_1%_0805]

## RES_14K5_0.125W_1%_0805
designator R?, comment 14K5
Resistenza SMD TE Connectivity Film sottile; Voltage[V]: 100; Tollerance[%]: 0.1; Serie: CPF; Vendor: TE Connectivity; Type: Resistors; Package: 0805; Power[W]: 0.1; Value[OHM ]: 14K5
footprint RES_0816_SUS(My_MAXI)
pins: 1, 2

## RES_14K7_0.125W_1%_0805
designator R?, comment 14K7
Resistenza SMD TE Connectivity Film sottile; Voltage[V]: 100; Tollerance[%]: 0.1; Serie: CPF; Vendor: TE Connectivity; Type: Resistors; Package: 0805; Power[W]: 0.1; Value[OHM ]: 14K7
footprint RES_0816_SUS(My_MAXI)
pins: 1, 2

## RES_14K9_0.125W_1%_0805
designator R?, comment 14K9
Resistenza SMD TE Connectivity Film sottile; Voltage[V]: 100; Tollerance[%]: 0.1; Serie: CPF; Vendor: TE Connectivity; Type: Resistors; Package: 0805; Power[W]: 0.1; Value[OHM ]: 14K9
footprint RES_0816_SUS(My_MAXI)
pins: 1, 2

## RES_14R7_0.125W_1%_0805
designator R?, comment 14.7
Resistenza SMD TE Connectivity Film sottile; Voltage[V]: 100; Tollerance[%]: 0.1; Serie: CPF; Vendor: TE Connectivity; Type: Resistors; Package: 0805; Power[W]: 0.1; Value[OHM ]: 14.7
footprint RES_0816_SUS(My_MAXI)
pins: 1, 2

## RES_15.2_0.125W_1%_0805
designator R?, comment 15.2
Resistenza SMD TE Connectivity Film sottile; Voltage[V]: 100; Tollerance[%]: 0.1; Serie: CPF; Vendor: TE Connectivity; Type: Resistors; Package: 0805; Power[W]: 0.1; Value[OHM ]: 15.2
footprint RES_0816_SUS(My_MAXI)
pins: 1, 2

## RES_15.4_0.125W_1%_0805
designator R?, comment 15.4
Resistenza SMD TE Connectivity Film sottile; Voltage[V]: 100; Tollerance[%]: 0.1; Serie: CPF; Vendor: TE Connectivity; Type: Resistors; Package: 0805; Power[W]: 0.1; Value[OHM ]: 15.4
footprint RES_0816_SUS(My_MAXI)
pins: 1, 2

## RES_15.6_0.125W_1%_0805
designator R?, comment 15.6
Resistenza SMD TE Connectivity Film sottile; Voltage[V]: 100; Tollerance[%]: 0.1; Serie: CPF; Vendor: TE Connectivity; Type: Resistors; Package: 0805; Power[W]: 0.1; Value[OHM ]: 15.6
footprint RES_0816_SUS(My_MAXI)
pins: 1, 2

## RES_15.8_0.125W_1%_0805
designator R?, comment 15.8
Resistenza SMD TE Connectivity Film sottile; Voltage[V]: 100; Tollerance[%]: 0.1; Serie: CPF; Vendor: TE Connectivity; Type: Resistors; Package: 0805; Power[W]: 0.1; Value[OHM ]: 15.8
footprint RES_0816_SUS(My_MAXI)
pins: 1, 2

## RES_15K0_0.125W_1%_0805
designator R?, comment 15K0
Resistenza SMD TE Connectivity Film sottile; Voltage[V]: 100; Tollerance[%]: 0.1; Serie: CPF; Vendor: TE Connectivity; Type: Resistors; Package: 0805; Power[W]: 0.1; Value[OHM ]: 15K0
footprint RES_0816_SUS(My_MAXI)
pins: 1, 2

## RES_15K2_0.125W_1%_0805
designator R?, comment 15K2
Resistenza SMD TE Connectivity Film sottile; Voltage[V]: 100; Tollerance[%]: 0.1; Serie: CPF; Vendor: TE Connectivity; Type: Resistors; Package: 0805; Power[W]: 0.1; Value[OHM ]: 15K2
footprint RES_0816_SUS(My_MAXI)
pins: 1, 2

## RES_15K4_0.125W_1%_0805
designator R?, comment 15K4
Resistenza SMD TE Connectivity Film sottile; Voltage[V]: 100; Tollerance[%]: 0.1; Serie: CPF; Vendor: TE Connectivity; Type: Resistors; Package: 0805; Power[W]: 0.1; Value[OHM ]: 15K4
footprint RES_0816_SUS(My_MAXI)
pins: 1, 2

## RES_15K6_0.125W_1%_0805
designator R?, comment 15K6
Resistenza SMD TE Connectivity Film sottile; Voltage[V]: 100; Tollerance[%]: 0.1; Serie: CPF; Vendor: TE Connectivity; Type: Resistors; Package: 0805; Power[W]: 0.1; Value[OHM ]: 15K6
footprint RES_0816_SUS(My_MAXI)
pins: 1, 2

## RES_15K8_0.125W_1%_0805
designator R?, comment 15K8
Resistenza SMD TE Connectivity Film sottile; Voltage[V]: 100; Tollerance[%]: 0.1; Serie: CPF; Vendor: TE Connectivity; Type: Resistors; Package: 0805; Power[W]: 0.1; Value[OHM ]: 15K8
footprint RES_0816_SUS(My_MAXI)
pins: 1, 2

## RES_15R0_0.125W_1%_0805
designator R?, comment 15.0
Resistenza SMD TE Connectivity Film sottile; Voltage[V]: 100; Tollerance[%]: 0.1; Serie: CPF; Vendor: TE Connectivity; Type: Resistors; Package: 0805; Power[W]: 0.1; Value[OHM ]: 15.0
footprint RES_0816_SUS(My_MAXI)
pins: 1, 2

## RES_16.0_0.125W_1%_0805
designator R?, comment 16.0
Resistenza SMD TE Connectivity Film sottile; Voltage[V]: 100; Tollerance[%]: 0.1; Serie: CPF; Vendor: TE Connectivity; Type: Resistors; Package: 0805; Power[W]: 0.1; Value[OHM ]: 16.0
footprint RES_0816_SUS(My_MAXI)
pins: 1, 2

## RES_16.2_0.125W_1%_0805
designator R?, comment 16.2
Resistenza SMD TE Connectivity Film sottile; Voltage[V]: 100; Tollerance[%]: 0.1; Serie: CPF; Vendor: TE Connectivity; Type: Resistors; Package: 0805; Power[W]: 0.1; Value[OHM ]: 16.2
footprint RES_0816_SUS(My_MAXI)
pins: 1, 2

## RES_16.4_0.125W_1%_0805
designator R?, comment 16.4
Resistenza SMD TE Connectivity Film sottile; Voltage[V]: 100; Tollerance[%]: 0.1; Serie: CPF; Vendor: TE Connectivity; Type: Resistors; Package: 0805; Power[W]: 0.1; Value[OHM ]: 16.4
footprint RES_0816_SUS(My_MAXI)
pins: 1, 2

## RES_16.5_0.125W_1%_0805
designator R?, comment 16.5
Resistenza SMD TE Connectivity Film sottile; Voltage[V]: 100; Tollerance[%]: 0.1; Serie: CPF; Vendor: TE Connectivity; Type: Resistors; Package: 0805; Power[W]: 0.1; Value[OHM ]: 16.5
footprint RES_0816_SUS(My_MAXI)
pins: 1, 2

## RES_16.7_0.125W_1%_0805
designator R?, comment 16.7
Resistenza SMD TE Connectivity Film sottile; Voltage[V]: 100; Tollerance[%]: 0.1; Serie: CPF; Vendor: TE Connectivity; Type: Resistors; Package: 0805; Power[W]: 0.1; Value[OHM ]: 16.7
footprint RES_0816_SUS(My_MAXI)
pins: 1, 2

## RES_16.9_0.125W_1%_0805
designator R?, comment 16.9
Resistenza SMD TE Connectivity Film sottile; Voltage[V]: 100; Tollerance[%]: 0.1; Serie: CPF; Vendor: TE Connectivity; Type: Resistors; Package: 0805; Power[W]: 0.1; Value[OHM ]: 16.9
footprint RES_0816_SUS(My_MAXI)
pins: 1, 2

## RES_16K0_0.125W_1%_0805
designator R?, comment 16K0
Resistenza SMD TE Connectivity Film sottile; Voltage[V]: 100; Tollerance[%]: 0.1; Serie: CPF; Vendor: TE Connectivity; Type: Resistors; Package: 0805; Power[W]: 0.1; Value[OHM ]: 16K0
footprint RES_0816_SUS(My_MAXI)
pins: 1, 2

## RES_16K2_0.125W_1%_0805
designator R?, comment 16K2
Resistenza SMD TE Connectivity Film sottile; Voltage[V]: 100; Tollerance[%]: 0.1; Serie: CPF; Vendor: TE Connectivity; Type: Resistors; Package: 0805; Power[W]: 0.1; Value[OHM ]: 16K2
footprint RES_0816_SUS(My_MAXI)
pins: 1, 2

## RES_16K4_0.125W_1%_0805
designator R?, comment 16K4
Resistenza SMD TE Connectivity Film sottile; Voltage[V]: 100; Tollerance[%]: 0.1; Serie: CPF; Vendor: TE Connectivity; Type: Resistors; Package: 0805; Power[W]: 0.1; Value[OHM ]: 16K4
footprint RES_0816_SUS(My_MAXI)
pins: 1, 2

## RES_16K5_0.125W_1%_0805
designator R?, comment 16K5
Resistenza SMD TE Connectivity Film sottile; Voltage[V]: 100; Tollerance[%]: 0.1; Serie: CPF; Vendor: TE Connectivity; Type: Resistors; Package: 0805; Power[W]: 0.1; Value[OHM ]: 16K5
footprint RES_0816_SUS(My_MAXI)
pins: 1, 2

## RES_16K7_0.125W_1%_0805
designator R?, comment 16K7
Resistenza SMD TE Connectivity Film sottile; Voltage[V]: 100; Tollerance[%]: 0.1; Serie: CPF; Vendor: TE Connectivity; Type: Resistors; Package: 0805; Power[W]: 0.1; Value[OHM ]: 16K7
footprint RES_0816_SUS(My_MAXI)
pins: 1, 2

## RES_16K9_0.125W_1%_0805
designator R?, comment 16K9
Resistenza SMD TE Connectivity Film sottile; Voltage[V]: 100; Tollerance[%]: 0.1; Serie: CPF; Vendor: TE Connectivity; Type: Resistors; Package: 0805; Power[W]: 0.1; Value[OHM ]: 16K9
footprint RES_0816_SUS(My_MAXI)
pins: 1, 2

## RES_17.2_0.125W_1%_0805
designator R?, comment 17.2
Resistenza SMD TE Connectivity Film sottile; Voltage[V]: 100; Tollerance[%]: 0.1; Serie: CPF; Vendor: TE Connectivity; Type: Resistors; Package: 0805; Power[W]: 0.1; Value[OHM ]: 17.2
footprint RES_0816_SUS(My_MAXI)
pins: 1, 2

## RES_17.4_0.125W_1%_0805
designator R?, comment 17.4
Resistenza SMD TE Connectivity Film sottile; Voltage[V]: 100; Tollerance[%]: 0.1; Serie: CPF; Vendor: TE Connectivity; Type: Resistors; Package: 0805; Power[W]: 0.1; Value[OHM ]: 17.4
footprint RES_0816_SUS(My_MAXI)
pins: 1, 2

## RES_17.6_0.125W_1%_0805
designator R?, comment 17.6
Resistenza SMD TE Connectivity Film sottile; Voltage[V]: 100; Tollerance[%]: 0.1; Serie: CPF; Vendor: TE Connectivity; Type: Resistors; Package: 0805; Power[W]: 0.1; Value[OHM ]: 17.6
footprint RES_0816_SUS(My_MAXI)
pins: 1, 2

## RES_17.8_0.125W_1%_0805
designator R?, comment 17.8
Resistenza SMD TE Connectivity Film sottile; Voltage[V]: 100; Tollerance[%]: 0.1; Serie: CPF; Vendor: TE Connectivity; Type: Resistors; Package: 0805; Power[W]: 0.1; Value[OHM ]: 17.8
footprint RES_0816_SUS(My_MAXI)
pins: 1, 2

## RES_17K2_0.125W_1%_0805
designator R?, comment 17K2
Resistenza SMD TE Connectivity Film sottile; Voltage[V]: 100; Tollerance[%]: 0.1; Serie: CPF; Vendor: TE Connectivity; Type: Resistors; Package: 0805; Power[W]: 0.1; Value[OHM ]: 17K2
footprint RES_0816_SUS(My_MAXI)
pins: 1, 2

## RES_17K4_0.125W_1%_0805
designator R?, comment 17K4
Resistenza SMD TE Connectivity Film sottile; Voltage[V]: 100; Tollerance[%]: 0.1; Serie: CPF; Vendor: TE Connectivity; Type: Resistors; Package: 0805; Power[W]: 0.1; Value[OHM ]: 17K4
footprint RES_0816_SUS(My_MAXI)
pins: 1, 2

## RES_17K6_0.125W_1%_0805
designator R?, comment 17K6
Resistenza SMD TE Connectivity Film sottile; Voltage[V]: 100; Tollerance[%]: 0.1; Serie: CPF; Vendor: TE Connectivity; Type: Resistors; Package: 0805; Power[W]: 0.1; Value[OHM ]: 17K6
footprint RES_0816_SUS(My_MAXI)
pins: 1, 2

## RES_17K8_0.125W_1%_0805
designator R?, comment 17K8
Resistenza SMD TE Connectivity Film sottile; Voltage[V]: 100; Tollerance[%]: 0.1; Serie: CPF; Vendor: TE Connectivity; Type: Resistors; Package: 0805; Power[W]: 0.1; Value[OHM ]: 17K8
footprint RES_0816_SUS(My_MAXI)
pins: 1, 2

## RES_18.0_0.125W_1%_0805
designator R?, comment 18
Resistenza SMD TE Connectivity Film sottile; Voltage[V]: 100; Tollerance[%]: 0.1; Serie: CPF; Vendor: TE Connectivity; Type: Resistors; Package: 0805; Power[W]: 0.1; Value[OHM ]: 18
footprint RES_0816_SUS(My_MAXI)
pins: 1, 2

## RES_18.2_0.125W_1%_0805
designator R?, comment 18.2
Resistenza SMD TE Connectivity Film sottile; Voltage[V]: 100; Tollerance[%]: 0.1; Serie: CPF; Vendor: TE Connectivity; Type: Resistors; Package: 0805; Power[W]: 0.1; Value[OHM ]: 18.2
footprint RES_0816_SUS(My_MAXI)
pins: 1, 2

## RES_18.4_0.125W_1%_0805
designator R?, comment 18.4
Resistenza SMD TE Connectivity Film sottile; Voltage[V]: 100; Tollerance[%]: 0.1; Serie: CPF; Vendor: TE Connectivity; Type: Resistors; Package: 0805; Power[W]: 0.1; Value[OHM ]: 18.4
footprint RES_0816_SUS(My_MAXI)
pins: 1, 2

## RES_18.7_0.125W_1%_0805
designator R?, comment 18.7
Resistenza SMD TE Connectivity Film sottile; Voltage[V]: 100; Tollerance[%]: 0.1; Serie: CPF; Vendor: TE Connectivity; Type: Resistors; Package: 0805; Power[W]: 0.1; Value[OHM ]: 18.7
footprint RES_0816_SUS(My_MAXI)
pins: 1, 2

## RES_18.9_0.125W_1%_0805
designator R?, comment 18.9
Resistenza SMD TE Connectivity Film sottile; Voltage[V]: 100; Tollerance[%]: 0.1; Serie: CPF; Vendor: TE Connectivity; Type: Resistors; Package: 0805; Power[W]: 0.1; Value[OHM ]: 18.9
footprint RES_0816_SUS(My_MAXI)
pins: 1, 2

## RES_18K0_0.125W_1%_0805
designator R?, comment 18K0
Resistenza SMD TE Connectivity Film sottile; Voltage[V]: 100; Tollerance[%]: 0.1; Serie: CPF; Vendor: TE Connectivity; Type: Resistors; Package: 0805; Power[W]: 0.1; Value[OHM ]: 18K0
footprint RES_0816_SUS(My_MAXI)
pins: 1, 2

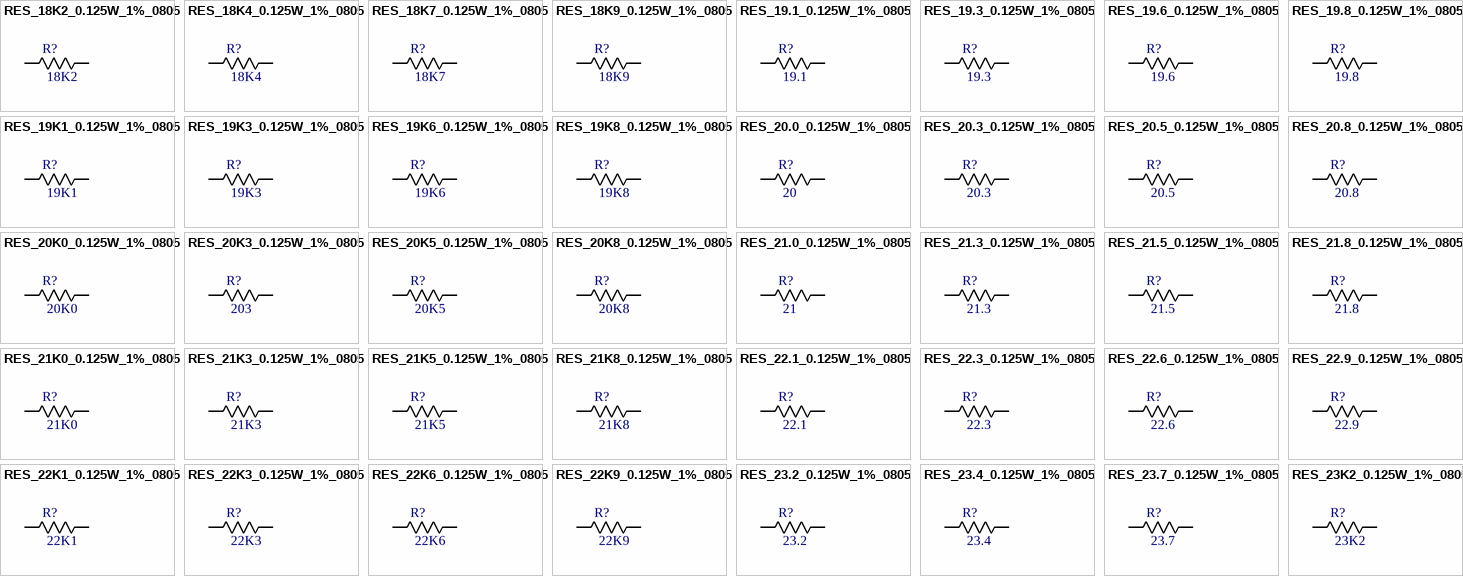
[diagram p8: symbols RES_18K2_0.125W_1%_0805 to RES_23K2_0.125W_1%_0805]

## RES_18K2_0.125W_1%_0805
designator R?, comment 18K2
Resistenza SMD TE Connectivity Film sottile; Voltage[V]: 100; Tollerance[%]: 0.1; Serie: CPF; Vendor: TE Connectivity; Type: Resistors; Package: 0805; Power[W]: 0.1; Value[OHM ]: 18K2
footprint RES_0816_SUS(My_MAXI)
pins: 1, 2

## RES_18K4_0.125W_1%_0805
designator R?, comment 18K4
Resistenza SMD TE Connectivity Film sottile; Voltage[V]: 100; Tollerance[%]: 0.1; Serie: CPF; Vendor: TE Connectivity; Type: Resistors; Package: 0805; Power[W]: 0.1; Value[OHM ]: 18K4
footprint RES_0816_SUS(My_MAXI)
pins: 1, 2

## RES_18K7_0.125W_1%_0805
designator R?, comment 18K7
Resistenza SMD TE Connectivity Film sottile; Voltage[V]: 100; Tollerance[%]: 0.1; Serie: CPF; Vendor: TE Connectivity; Type: Resistors; Package: 0805; Power[W]: 0.1; Value[OHM ]: 18K7
footprint RES_0816_SUS(My_MAXI)
pins: 1, 2

## RES_18K9_0.125W_1%_0805
designator R?, comment 18K9
Resistenza SMD TE Connectivity Film sottile; Voltage[V]: 100; Tollerance[%]: 0.1; Serie: CPF; Vendor: TE Connectivity; Type: Resistors; Package: 0805; Power[W]: 0.1; Value[OHM ]: 18K9
footprint RES_0816_SUS(My_MAXI)
pins: 1, 2

## RES_19.1_0.125W_1%_0805
designator R?, comment 19.1
Resistenza SMD TE Connectivity Film sottile; Voltage[V]: 100; Tollerance[%]: 0.1; Serie: CPF; Vendor: TE Connectivity; Type: Resistors; Package: 0805; Power[W]: 0.1; Value[OHM ]: 19.1
footprint RES_0816_SUS(My_MAXI)
pins: 1, 2

## RES_19.3_0.125W_1%_0805
designator R?, comment 19.3
Resistenza SMD TE Connectivity Film sottile; Voltage[V]: 100; Tollerance[%]: 0.1; Serie: CPF; Vendor: TE Connectivity; Type: Resistors; Package: 0805; Power[W]: 0.1; Value[OHM ]: 19.3
footprint RES_0816_SUS(My_MAXI)
pins: 1, 2

## RES_19.6_0.125W_1%_0805
designator R?, comment 19.6
Resistenza SMD TE Connectivity Film sottile; Voltage[V]: 100; Tollerance[%]: 0.1; Serie: CPF; Vendor: TE Connectivity; Type: Resistors; Package: 0805; Power[W]: 0.1; Value[OHM ]: 19.6
footprint RES_0816_SUS(My_MAXI)
pins: 1, 2

## RES_19.8_0.125W_1%_0805
designator R?, comment 19.8
Resistenza SMD TE Connectivity Film sottile; Voltage[V]: 100; Tollerance[%]: 0.1; Serie: CPF; Vendor: TE Connectivity; Type: Resistors; Package: 0805; Power[W]: 0.1; Value[OHM ]: 19.8
footprint RES_0816_SUS(My_MAXI)
pins: 1, 2

## RES_19K1_0.125W_1%_0805
designator R?, comment 19K1
Resistenza SMD TE Connectivity Film sottile; Voltage[V]: 100; Tollerance[%]: 0.1; Serie: CPF; Vendor: TE Connectivity; Type: Resistors; Package: 0805; Power[W]: 0.1; Value[OHM ]: 19K1
footprint RES_0816_SUS(My_MAXI)
pins: 1, 2

## RES_19K3_0.125W_1%_0805
designator R?, comment 19K3
Resistenza SMD TE Connectivity Film sottile; Voltage[V]: 100; Tollerance[%]: 0.1; Serie: CPF; Vendor: TE Connectivity; Type: Resistors; Package: 0805; Power[W]: 0.1; Value[OHM ]: 19K3
footprint RES_0816_SUS(My_MAXI)
pins: 1, 2

## RES_19K6_0.125W_1%_0805
designator R?, comment 19K6
Resistenza SMD TE Connectivity Film sottile; Voltage[V]: 100; Tollerance[%]: 0.1; Serie: CPF; Vendor: TE Connectivity; Type: Resistors; Package: 0805; Power[W]: 0.1; Value[OHM ]: 19K6
footprint RES_0816_SUS(My_MAXI)
pins: 1, 2

## RES_19K8_0.125W_1%_0805
designator R?, comment 19K8
Resistenza SMD TE Connectivity Film sottile; Voltage[V]: 100; Tollerance[%]: 0.1; Serie: CPF; Vendor: TE Connectivity; Type: Resistors; Package: 0805; Power[W]: 0.1; Value[OHM ]: 19K8
footprint RES_0816_SUS(My_MAXI)
pins: 1, 2

## RES_20.0_0.125W_1%_0805
designator R?, comment 20
Resistenza SMD TE Connectivity Film sottile; Voltage[V]: 100; Tollerance[%]: 0.1; Serie: CPF; Vendor: TE Connectivity; Type: Resistors; Package: 0805; Power[W]: 0.1; Value[OHM ]: 20
footprint RES_0816_SUS(My_MAXI)
pins: 1, 2

## RES_20.3_0.125W_1%_0805
designator R?, comment 20.3
Resistenza SMD TE Connectivity Film sottile; Voltage[V]: 100; Tollerance[%]: 0.1; Serie: CPF; Vendor: TE Connectivity; Type: Resistors; Package: 0805; Power[W]: 0.1; Value[OHM ]: 20.3
footprint RES_0816_SUS(My_MAXI)
pins: 1, 2

## RES_20.5_0.125W_1%_0805
designator R?, comment 20.5
Resistenza SMD TE Connectivity Film sottile; Voltage[V]: 100; Tollerance[%]: 0.1; Serie: CPF; Vendor: TE Connectivity; Type: Resistors; Package: 0805; Power[W]: 0.1; Value[OHM ]: 20.5
footprint RES_0816_SUS(My_MAXI)
pins: 1, 2

## RES_20.8_0.125W_1%_0805
designator R?, comment 20.8
Resistenza SMD TE Connectivity Film sottile; Voltage[V]: 100; Tollerance[%]: 0.1; Serie: CPF; Vendor: TE Connectivity; Type: Resistors; Package: 0805; Power[W]: 0.1; Value[OHM ]: 20.8
footprint RES_0816_SUS(My_MAXI)
pins: 1, 2

## RES_20K0_0.125W_1%_0805
designator R?, comment 20K0
Resistenza SMD TE Connectivity Film sottile; Voltage[V]: 100; Tollerance[%]: 0.1; Serie: CPF; Vendor: TE Connectivity; Type: Resistors; Package: 0805; Power[W]: 0.1; Value[OHM ]: 20K0
footprint RES_0816_SUS(My_MAXI)
pins: 1, 2

## RES_20K3_0.125W_1%_0805
designator R?, comment 203
Resistenza SMD TE Connectivity Film sottile; Voltage[V]: 100; Tollerance[%]: 0.1; Serie: CPF; Vendor: TE Connectivity; Type: Resistors; Package: 0805; Power[W]: 0.1; Value[OHM ]: 203
footprint RES_0816_SUS(My_MAXI)
pins: 1, 2

## RES_20K5_0.125W_1%_0805
designator R?, comment 20K5
Resistenza SMD TE Connectivity Film sottile; Voltage[V]: 100; Tollerance[%]: 0.1; Serie: CPF; Vendor: TE Connectivity; Type: Resistors; Package: 0805; Power[W]: 0.1; Value[OHM ]: 20K5
footprint RES_0816_SUS(My_MAXI)
pins: 1, 2

## RES_20K8_0.125W_1%_0805
designator R?, comment 20K8
Resistenza SMD TE Connectivity Film sottile; Voltage[V]: 100; Tollerance[%]: 0.1; Serie: CPF; Vendor: TE Connectivity; Type: Resistors; Package: 0805; Power[W]: 0.1; Value[OHM ]: 20K8
footprint RES_0816_SUS(My_MAXI)
pins: 1, 2

## RES_21.0_0.125W_1%_0805
designator R?, comment 21
Resistenza SMD TE Connectivity Film sottile; Voltage[V]: 100; Tollerance[%]: 0.1; Serie: CPF; Vendor: TE Connectivity; Type: Resistors; Package: 0805; Power[W]: 0.1; Value[OHM ]: 21
footprint RES_0816_SUS(My_MAXI)
pins: 1, 2

## RES_21.3_0.125W_1%_0805
designator R?, comment 21.3
Resistenza SMD TE Connectivity Film sottile; Voltage[V]: 100; Tollerance[%]: 0.1; Serie: CPF; Vendor: TE Connectivity; Type: Resistors; Package: 0805; Power[W]: 0.1; Value[OHM ]: 21.3
footprint RES_0816_SUS(My_MAXI)
pins: 1, 2